# EAGLE library part TPS54240 (library gost_micro)
TPS54240 3.5-V to 42-V Step-DownDC - DC ConverterWith Eco-Mode
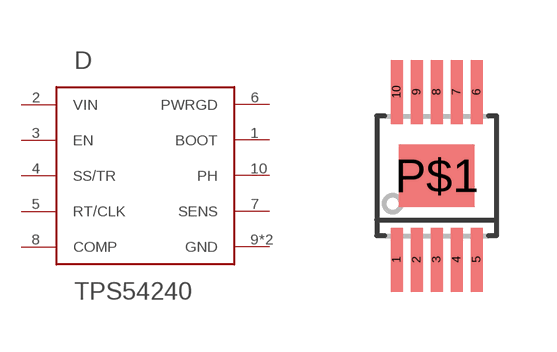
[diagram p24: symbol with the pads of VTSSOP10; footprint VTSSOP10]

Designator prefix D

## TPS54240DCQ  [VTSSOP10]
1  BOOT
2  VIN
3  EN
4  SS/TR
5  RT/CLK
6  PWRGD
7  SENS
8  COMP
9  GND
10  PH
P$1  GND

## Footprint VTSSOP10 (pad centres in mm)
VTSSOP10 3x3 mm Pitch 0.5 mm
smd 0.3 x 1.6: 1 -1,-2.1; 2 -0.5,-2.1; 3 0,-2.1; 4 0.5,-2.1; 5 1,-2.1; 6 1,2.1; 7 0.5,2.1; 8 0,2.1; 9 -0.5,2.1; 10 -1,2.1
smd 1.88 x 1.57: P$1 0,0